# EAGLE library part ADS1211U (library burr-brown)
24-Bit, 16 kSPS ADC
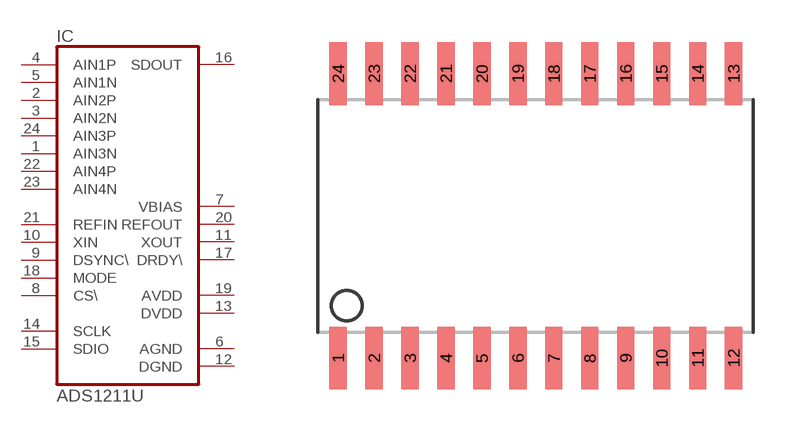
[diagram p62: symbol with the pads of SO-24L; footprint SO-24L]

Designator prefix IC

## ADS1211U  [SO-24L]
1  AIN3N  in
2  AIN2P  in
3  AIN2N  in
4  AIN1P  in
5  AIN1N  in
6  AGND  pwr
7  VBIAS  out
8  CS\  in
9  DSYNC\  in
10  XIN  in
11  XOUT  out
12  DGND  pwr
13  DVDD  pwr
14  SCLK
15  SDIO
16  SDOUT  out
17  DRDY\  out
18  MODE  in
19  AVDD  pwr
20  REFOUT  out
21  REFIN  in
22  AIN4P  in
23  AIN4N  in
24  AIN3P  in

## Footprint SO-24L (pad centres in mm)
smd 0.61 x 2.21: 1 -6.985,-5.029; 2 -5.715,-5.029; 3 -4.445,-5.029; 4 -3.175,-5.029; 5 -1.905,-5.029; 6 -0.635,-5.029; 7 0.635,-5.029; 8 1.905,-5.029; 9 3.175,-5.029; 10 4.445,-5.029; 11 5.715,-5.029; 12 6.985,-5.029; 13 6.985,5.029; 14 5.715,5.029; 15 4.445,5.029; 16 3.175,5.029; 17 1.905,5.029; 18 0.635,5.029; 19 -0.635,5.029; 20 -1.905,5.029; 21 -3.175,5.029; 22 -4.445,5.029; 23 -5.715,5.029; 24 -6.985,5.029